# Altium schematic symbol library ADR39x.Schlib: 1 symbol
Pins are listed as number, name and electrical type; pins without a type are passive.

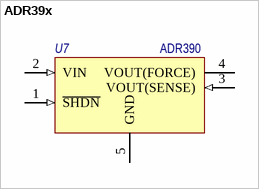
[diagram p0: symbol ADR39x]

## ADR39x
designator U7, comment Наименование: ADR390  (hidden comment: ADR39х)
Micropower, Low Noise Precision Voltage Reference with Shutdown, 2.5 V Output, 2.8 to 15 V Supply, Industrial, 5-pin SOT23 (UJ-5), Reel; Manufacturer: Analog Devices; PartNumber: ADR391BUJZ-REEL7; Min V Supply (V): 2.8; Ref Out TC (ppm/C): 9; Vout: 2.5; Max V Supply (V): 15; Назначение: Источник опорного напряжения; Потребление, Вт: 0,001; ComponentLink4URL: Product URL:http://www.analog.com/en/special-linear-functions/voltage-references/adr391/products/product.html; ComponentLink2Description: Datasheet; ComponentLink1URL: http://www.analog.com/en/index.html; ComponentLink4Description: URL Link1; ComponentLink3URL: http:/www.analog.com/static/imported-files/packages/PKG_PDF/TSOT(UJ)/UJ_5.pdf; PackageVersion: 100708-A, 10/2008; ComponentLink2URL: http://www.analog.com/static/imported-files/data_sheets/ADR391_392_395.pdf; ComponentLink1Description: Manufacturer URL; DatasheetVersion: Rev. H; Code_JEDEC: MO-193-AB; Mounting Technology: Surface Mount; Packing: Reel; PackageDescription: 5-Pin Thin Small Outline Transistor Package, Body 2.9 x 1.6 mm, Pitch 0.95 mm; PackageReference: UJ-5; Operating Temp Range: -40 to 125 degC; ComponentLink3Description: Package Specification
footprint TSOT-5
pins: 1 ~{SHDN} (in), 2 VIN (in), 3 VOUT(SENSE) (in), 4 VOUT(FORCE) (hiz), 5 GND (power)